# EAGLE library part 20PIN_FEMALE_CONNECTOR (library Moodlight)
Buchsenleiste 20Pol 90°
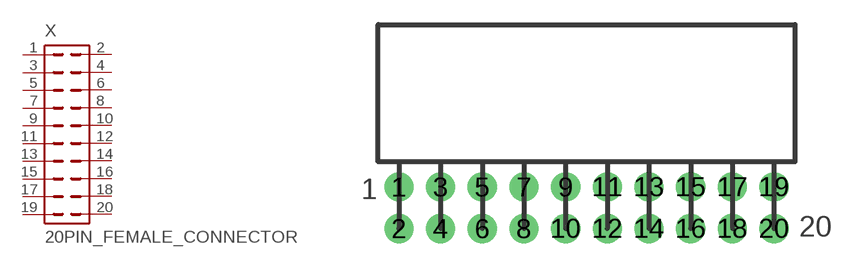
[diagram p1: symbol with the pads of 20PIN_FEMALE_CONNECTOR; footprint 20PIN_FEMALE_CONNECTOR]

Designator prefix X

## 20PIN_FEMALE_CONNECTOR  [20PIN_FEMALE_CONNECTOR]
1  1  pas
2  2  pas
3  3  pas
4  4  pas
5  5  pas
6  6  pas
7  7  pas
8  8  pas
9  9  pas
10  10  pas
11  11  pas
12  12  pas
13  13  pas
14  14  pas
15  15  pas
16  16  pas
17  17  pas
18  18  pas
19  19  pas
20  20  pas

## Footprint 20PIN_FEMALE_CONNECTOR (pad centres in mm)
Buchsenleiste 20Pol 90°
drill 1 pad 1.778: 1 -8.89,1.27; 2 -8.89,-1.27; 3 -6.35,1.27; 4 -6.35,-1.27; 5 -3.81,1.27; 6 -3.81,-1.27; 7 -1.27,1.27; 8 -1.27,-1.27; 9 1.27,1.27; 10 1.27,-1.27; 11 3.81,1.27; 12 3.81,-1.27; 13 6.35,1.27; 14 6.35,-1.27; 15 8.89,1.27; 16 8.89,-1.27; 17 11.43,1.27; 18 11.43,-1.27; 19 13.97,1.27; 20 13.97,-1.27